# Altium footprint library Main.PcbLib: 36 footprints (part 3 of 3)
Each footprint in its own frame and in the unit in brackets; x right, y up, seen from the top. Pads: shape width x height; smd on the part's side, far side on the other; paste and mask are expansions set on the pad; w line width, h text height; cw(c..) or ccw(c..) is an arc to the next point about the centre after c.
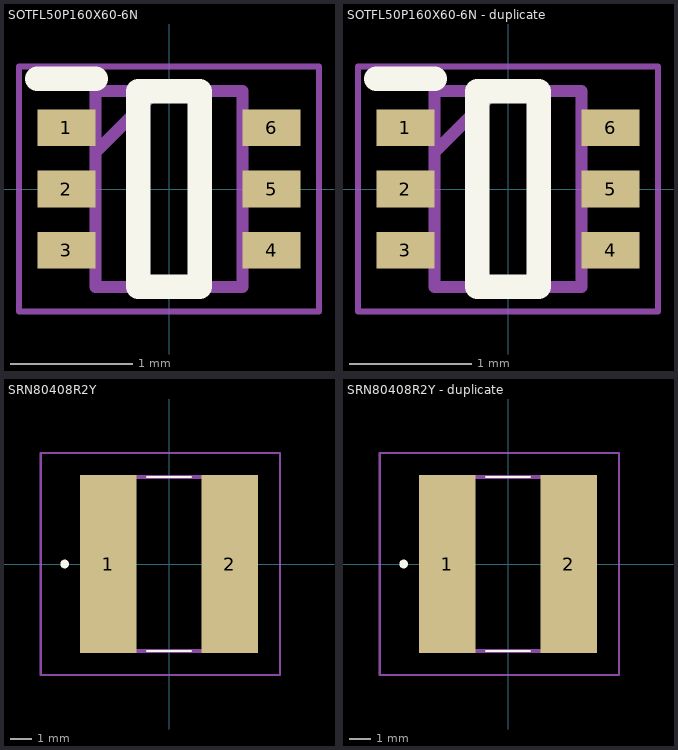
[diagram p2: the footprints below, top view; thin cyan lines are the x and y axes]

## SOTFL50P160X60-6N [mm]
pads (6):
  rect 0.475x0.3 smd: 1(-0.838,0.5) 2(-0.838,0) 3(-0.838,-0.5) 4(0.838,-0.5) 5(0.838,0) 6(0.838,0.5)
Top Overlay:
  lines w0.2: -1.075,0.9 -0.6,0.9 ; -0.25,-0.8 0.25,-0.8 0.25,0.8 -0.25,0.8 -0.25,-0.8
Mechanical 13:
  lines w0.1: -0.6,0.3 -0.1,0.8 ; -0.6,-0.8 0.6,-0.8 0.6,0.8 -0.6,0.8 -0.6,-0.8
Mechanical 15:
  lines w0.05: -1.225,-1 1.225,-1 1.225,1 -1.225,1 -1.225,-1
3D body "TLV62569ADRLR.stp": height 0.6, standoff 0, extent -0.8,-0.8 0.8,0.8

## SOTFL50P160X60-6N - duplicate [mm]
pads (6):
  rect 0.475x0.3 smd: 1(-0.838,0.5) 2(-0.838,0) 3(-0.838,-0.5) 4(0.838,-0.5) 5(0.838,0) 6(0.838,0.5)
Top Overlay:
  lines w0.2: -1.075,0.9 -0.6,0.9 ; -0.25,-0.8 0.25,-0.8 0.25,0.8 -0.25,0.8 -0.25,-0.8
Mechanical 13:
  lines w0.1: -0.6,0.3 -0.1,0.8 ; -0.6,-0.8 0.6,-0.8 0.6,0.8 -0.6,0.8 -0.6,-0.8
Mechanical 15:
  lines w0.05: -1.225,-1 1.225,-1 1.225,1 -1.225,1 -1.225,-1
3D body "TLV62569ADRLR.stp": height 0.6, standoff 0, extent -0.8,-0.8 0.8,0.8

## SRN80408R2Y [mm]
pads (2):
  rect 2.6x8.2 smd: 1(-2.8,0) 2(2.8,0)
Top Overlay:
  lines w0.1: -1,-4 1,-4 ; -1,4 1,4
  lines w0.2: -4.8,-0.1 ccw(c-4.8,0) -4.8,0.1 ccw(c-4.8,0) -4.8,-0.1
Mechanical 13:
  lines w0.2: -4,-4 4,-4 4,4 -4,4 -4,-4
Mechanical 15:
  lines w0.1: -5.9,-5.1 5.1,-5.1 5.1,5.1 -5.9,5.1 -5.9,-5.1
3D body "SRN8040-1R0Y.stp": height 4, standoff 0, extent -4,-4 4,4

## SRN80408R2Y - duplicate [mm]
pads (2):
  rect 2.6x8.2 smd: 1(-2.8,0) 2(2.8,0)
Top Overlay:
  lines w0.1: -1,-4 1,-4 ; -1,4 1,4
  lines w0.2: -4.8,-0.1 ccw(c-4.8,0) -4.8,0.1 ccw(c-4.8,0) -4.8,-0.1
Mechanical 13:
  lines w0.2: -4,-4 4,-4 4,4 -4,4 -4,-4
Mechanical 15:
  lines w0.1: -5.9,-5.1 5.1,-5.1 5.1,5.1 -5.9,5.1 -5.9,-5.1
3D body "SRN8040-1R0Y.stp": height 4, standoff -4, extent -4,0 4,4